# Altium footprint library PcbLib1.PcbLib: 42 footprints (part 2 of 3)
Each footprint in its own frame and in the unit in brackets; x right, y up, seen from the top. Pads: shape width x height; smd on the part's side, far side on the other; paste and mask are expansions set on the pad; w line width, h text height; cw(c..) or ccw(c..) is an arc to the next point about the centre after c.
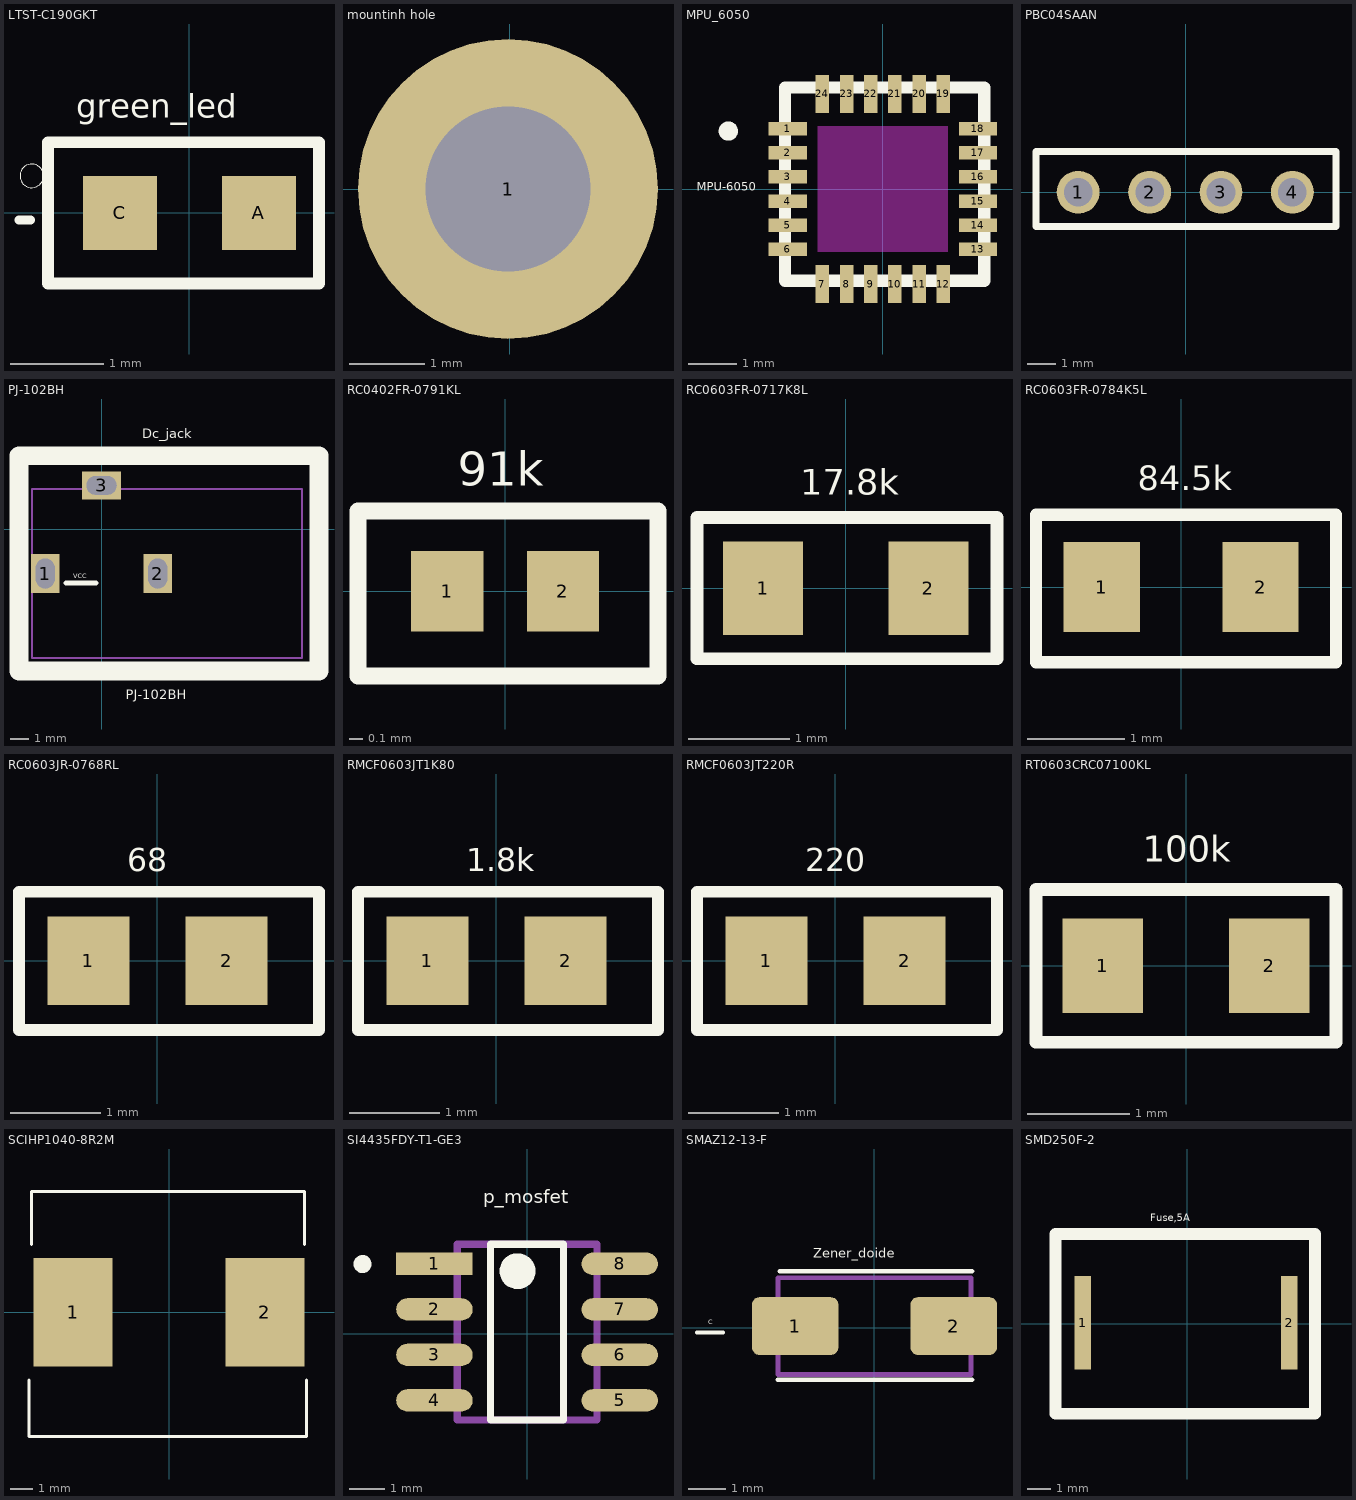
[diagram p1: the footprints below, top view; thin cyan lines are the x and y axes]

## LTST-C190GKT [mm] "20mA Yellow Green 2.1V 100mW 0603 LED Indication - Discrete ROHS"
pads (2):
  rect 0.8x0.8 smd: A(0.75,0) C(-0.75,0)
Top Overlay:
  circle w0: c-1.7,0.4 r0.127
  lines w0.1: -1.838,-0.075 -1.713,-0.075
  lines w0.127: -1.524,-0.762 1.397,-0.762 1.397,0.762 -1.524,0.762 -1.524,-0.762
  text "green_led" at -1.219,1.024 h0.25
3D body "LTST-C190GKT--3DModel-STEP-510211.STEP": height 0.81, standoff 0.01, extent -0.8,-0.4 0.8,0.4

## mountinh hole [mm] "2.2mm"
pads (1):
  round 4 hole 2.2: 1(-0.025,0)

## MPU_6050 [mm]
pads (24):
  rect 0.79x0.28 smd: 1(-1.97,1.25) 2(-1.97,0.75) 3(-1.97,0.25) 4(-1.97,-0.25) 5(-1.97,-0.75) 6(-1.97,-1.25) 13(1.97,-1.25) 14(1.97,-0.75) 15(1.97,-0.25) 16(1.97,0.25) 17(1.97,0.75) 18(1.97,1.25)
  rect 0.28x0.79 smd: 7(-1.25,-1.97) 8(-0.75,-1.97) 9(-0.25,-1.97) 10(0.25,-1.97) 11(0.75,-1.97) 12(1.25,-1.97) 19(1.25,1.97) 20(0.75,1.97) 21(0.25,1.97) 22(-0.25,1.97) 23(-0.75,1.97) 24(-1.25,1.97)
Top Overlay:
  circle w0.2: c-3.2,1.2 r0.1
  lines w0.254: -2.025,-1.9 2.1,-1.9 2.1,2.1 -2.025,2.1 -2.025,-1.9
  text "MPU-6050" at -3.849,-0.097 h0.3
Keep-Out Layer:
  region: 1.35,-1.3 -1.35,-1.3 -1.35,1.3 1.35,1.3
3D body "step_temp.STEP": height 0.93, standoff -0.02, extent -2,-2 2,2

## PBC04SAAN [mil]
pads (4):
  round 60 hole 40 paste-99999 mask+0: 1(-150.98,-0.02) 2(-50.98,-0.02) 3(49.02,-0.02) 4(149.02,-0.02)
Top Overlay:
  lines w10: -209.98,-48.02 210.02,-48.02 210.02,56.98 -209.98,56.98 -209.98,-48.02
3D body "PPPC041LFBN-RC.STEP": height 335, standoff -126, extent -210.98,-45.02 209.02,54.98

## PJ-102BH [mm]
pads (3):
  rect 1.5x2.1 hole 1 slot 1.6 at 90 deg: 1(-3,-2.35) 2(3,-2.35)
  rect 2.1x1.5 hole 1 slot 1.6 at 0 deg: 3(0,2.35)
Top Overlay:
  lines w0.254: -1.9,-2.85 -0.3,-2.85
  lines w1: -4.4,-7.55 11.6,-7.55 11.6,3.925 -4.4,3.925 -4.4,-7.55
  text "Dc_jack" at 2.175,4.867 h0.5
  text "PJ-102BH" at 1.3,-9.05 h0.5
  text "VCC" at -1.5,-2.6 h0.25
Mechanical 13:
  lines w0.1: -3.7,-6.85 -3.7,2.15 10.7,2.15 10.7,-6.85 -3.7,-6.85
3D body "pj-102bh.stp": height 11, standoff -3.5, extent -3.7,-6.85 10.7,2.55

## RC0402FR-0791KL [mm] "91kΩ 62.5mW 50V ±100ppm/℃ Thick Film Resistor ±1% 0402 Chip Resistor - Surface Mount ROHS"
pads (2):
  rect 0.54x0.6 smd: 1(-0.432,0) 2(0.432,0)
Top Overlay:
  lines w0.127: -1.1,-0.635 1.143,-0.635 1.143,0.6 -1.1,0.6 -1.1,-0.635
  text "91k" at -0.356,0.787 h0.25
3D body "step_temp.STEP": height 0.4, standoff 0, extent -0.5,-0.25 0.5,0.25

## RC0603FR-0717K8L [mm] "100mW 17.8kΩ 75V ±100ppm/℃ Thick Film Resistor ±1% 0603 Chip Resistor - Surface Mount ROHS"
pads (2):
  rect 0.79x0.93 smd: 1(-0.82,0) 2(0.82,0)
Top Overlay:
  lines w0.127: -1.475,-0.7 1.5,-0.7 1.5,0.7 -1.475,0.7 -1.475,-0.7
  text "17.8k" at -0.449,0.926 h0.25
3D body "step_temp.STEP": height 0.55, standoff 0, extent -0.8,-0.4 0.8,0.4

## RC0603FR-0784K5L [mm] "100mW 84.5kΩ 75V ±100ppm/℃ Thick Film Resistor ±1% 0603 Chip Resistor - Surface Mount ROHS"
pads (2):
  rect 0.79x0.93 smd: 1(-0.82,0) 2(0.82,0)
Top Overlay:
  lines w0.127: -1.5,-0.775 1.6,-0.775 1.6,0.75 -1.5,0.75 -1.5,-0.775
  text "84.5k" at -0.449,1.001 h0.25
3D body "step_temp.STEP": height 0.55, standoff 0, extent -0.8,-0.4 0.8,0.4

## RC0603JR-0768RL [mm] "100mW 68Ω 75V ±100ppm/℃ Thick Film Resistor ±5% 0603 Chip Resistor - Surface Mount ROHS"
pads (2):
  rect 0.9x0.97 smd: 1(-0.76,0) 2(0.76,0)
Top Overlay:
  lines w0.127: -1.524,-0.762 1.778,-0.762 1.778,0.762 -1.524,0.762 -1.524,-0.762
  text "68" at -0.331,0.987 h0.25
3D body "step_temp.STEP": height 0.55, standoff 0, extent -0.775,-0.4 0.775,0.4

## RMCF0603JT1K80 [mm] "100mW 1.8kΩ 75V ±200ppm/℃ Thick Film Resistor ±5% 0603 Chip Resistor - Surface Mount ROHS"
pads (2):
  rect 0.9x0.97 smd: 1(-0.76,0) 2(0.76,0)
Top Overlay:
  lines w0.127: -1.524,-0.762 1.778,-0.762 1.778,0.762 -1.524,0.762 -1.524,-0.762
  text "1.8k" at -0.331,0.987 h0.25
3D body "step_temp.STEP": height 0.55, standoff 0, extent -0.775,-0.4 0.775,0.4

## RMCF0603JT220R [mm] "100mW 220Ω 75V ±200ppm/℃ Thick Film Resistor ±5% 0603 Chip Resistor - Surface Mount ROHS"
pads (2):
  rect 0.9x0.97 smd: 1(-0.76,0) 2(0.76,0)
Top Overlay:
  lines w0.127: -1.524,-0.762 1.778,-0.762 1.778,0.762 -1.524,0.762 -1.524,-0.762
  text "220" at -0.331,0.987 h0.25
3D body "step_temp.STEP": height 0.55, standoff 0, extent -0.775,-0.4 0.775,0.4

## RT0603CRC07100KL [mm] "100 kOhms ±0.25% 0.1W, 1/10W Chip Resistor 0603 (1608 Metric) - Thin Film"
pads (2):
  rect 0.79x0.93 smd: 1(-0.82,0) 2(0.82,0)
Top Overlay:
  lines w0.127: -1.475,-0.75 1.475,-0.75 1.475,0.75 -1.475,0.75 -1.475,-0.75
  text "100k" at -0.424,1.026 h0.25
3D body "step_temp.STEP": height 0.55, standoff 0, extent -0.8,-0.4 0.8,0.4

## SCIHP1040-8R2M [mm] "7A 8.2uH ±20% 10A 31mΩ SMD,11.5x10.2mm Fixed Inductors ROHS"
pads (2):
  rect 3.5x4.8 smd: 1(-4.25,0) 2(4.25,0)
Top Overlay:
  lines w0.127: -6.2,-3 -6.2,-5.5 -2.725,-5.5 2.625,-5.5 4.194,-5.5 4.931,-5.5 6.1,-5.5 6.1,-3 ; -6.1,3 -6.1,5.35 -3.387,5.35 2.538,5.35 6,5.35 6,3
3D body: height 1.52, standoff 0, extent -5.775,-5.1 5.75,5.125

## SI4435FDY-T1-GE3 [mm] "30V 12.6A 19mΩ@10V,9A 2.2W 2.2V 1 P-Channel SO-8 Single FETs, MOSFETs ROHS"
pads (8):
  rect 2.135x0.625 smd paste+0 mask+0: 1(-2.592,1.955)
  rrect100% 2.135x0.625 smd paste+0 mask+0: 2(-2.592,0.685) 3(-2.592,-0.585) 4(-2.592,-1.855) 5(2.579,-1.855) 6(2.579,-0.585) 7(2.579,0.685) 8(2.579,1.955)
Top Overlay:
  circle w0.25: c-4.6,1.95 r0.125
  circle w0.5: c-0.275,1.75 r0.25
  lines w0.2: -1.025,-2.4 -1.025,2.5 1.012,2.5 1.012,-2.4 -1.025,-2.4
  text "p_mosfet" at -1.225,3.652 h0.38
Top 3D Body:
  lines w0.2: -1.957,-2.4 -1.957,2.5 1.943,2.5 1.943,-2.4 -1.957,-2.4
3D body "Trans_Vishay_SI4435FDY-T1-GE3_eec.STEP": height 0.25, standoff 0, extent -4.16,-2.9 4.146,3

## SMAZ12-13-F [mm] "Independent 11.4V~12.6V 1W 12V SMA Single Zener Diodes ROHS"
pads (2):
  rrect25% 2.33x1.55 smd: 1(-2.135,0.05) 2(2.135,0.05)
Top Overlay:
  lines w0.102: -4.775,-0.125 -4.075,-0.125
  lines w0.127: -2.6,-1.4 2.625,-1.4 ; -2.55,1.525 2.625,1.525
  text "Zener_doide" at -1.649,1.893 h0.25
  text "C" at -4.475,0.1 h0.13
Mechanical 13:
  lines w0.127: -2.598,-1.252 -2.598,1.352 2.598,1.352 2.598,-1.252 -2.598,-1.252
3D body "step_temp.STEP": height 2.4, standoff 0, extent -2.598,-1.252 2.598,1.352

## SMD250F-2 [mm] "Polymeric PTC Resettable Fuse 15V 2.5 A Ih Surface Mount 2-SMD"
pads (2):
  rect 0.711x3.937 smd paste+0 mask+0: 1(-4.395,0.025) 2(4.295,0.025)
Top Overlay:
  lines w0.5: -5.55,-3.8 5.375,-3.8 5.375,3.775 -5.55,3.775 -5.55,-3.8
  text "Fuse,5A" at -1.55,4.3 h0.3
3D body "FUSE_SMD250_LTF.step": height 1.63, standoff -3.91, extent -4.876,-3.328 4.522,3.378